# Altium schematic symbol library Diode.SchLib: 762 symbols (part 3 of 6)
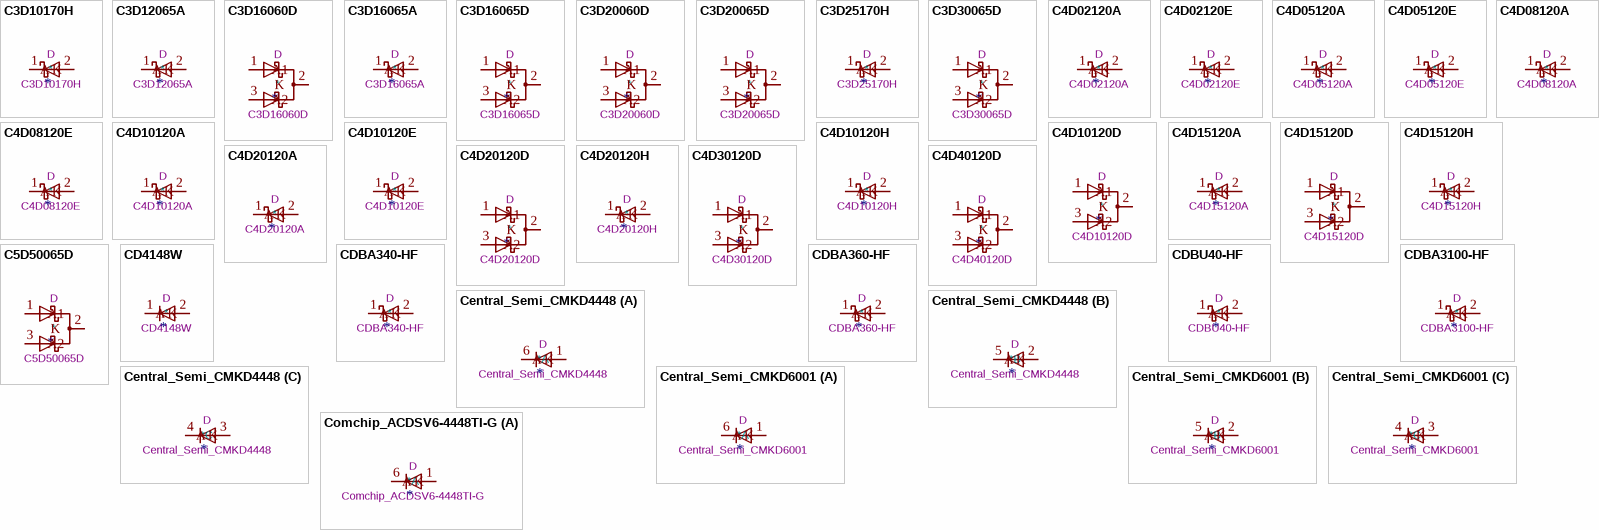
[diagram p22: symbols C3D10170H to Comchip_ACDSV6-4448TI-G]

## C4D40120D
designator *  value C4D40120D  Reference: D
1200V, 40A, SiC Schottky Diode, TO-247-3; ki_keywords: sic diode; ki_fp_filters: TO?247*; Footprint: Package_TO_SOT_THT:TO-247-3_Vertical; Datasheet: https://www.wolfspeed.com/media/downloads/109/C4D40120D.pdf; Description_: 1200V, 40A, SiC Schottky Diode, TO-247-3
pins: 1 A1, 2 K, 3 A2

## C5D50065D
designator *  value C5D50065D  Reference: D
650V, 50A, SiC Schottky Diode, TO-247-3; ki_keywords: sic diode; ki_fp_filters: TO?247*; Footprint: Package_TO_SOT_THT:TO-247-3_Vertical; Datasheet: https://www.wolfspeed.com/media/downloads/111/C5D50065D.pdf; Description_: 650V, 50A, SiC Schottky Diode, TO-247-3
pins: 1 A1, 2 K, 3 A2

## CD4148W
designator *  value CD4148W  Reference: D
75V 0.15A Switching Diode, 0805; Sim.Pins: 1=K 2=A; ki_fp_filters: D*0805*; Footprint: Diode_SMD:D_0805_2012Metric; Datasheet: https://www.dccomponents.com/upload/product/original/623524775088.pdf; Description_: 75V 0.15A Switching Diode, 0805; Sim.Device: D; ki_keywords: diode
pins: 1 K, 2 A

## CDBA340-HF
designator *  value CDBA340-HF  Reference: D
40V 3A Schottky Barrier Rectifier Diode, SMA(DO-214AC); ki_keywords: diode Schottky; ki_fp_filters: D*SMA*; Footprint: Diode_SMD:D_SMA; Datasheet: https://www.comchiptech.com/admin/files/product/CDBA340-HF%20Thru193640.%20CDBA3100-HF%20RevB.pdf; Description_: 40V 3A Schottky Barrier Rectifier Diode, SMA(DO-214AC)
pins: 1 K, 2 A

## CDBA360-HF
designator *  value CDBA360-HF  Reference: D
60V 3A Schottky Barrier Rectifier Diode, SMA(DO-214AC); ki_keywords: diode Schottky; ki_fp_filters: D*SMA*; Footprint: Diode_SMD:D_SMA; Datasheet: https://www.comchiptech.com/admin/files/product/CDBA340-HF%20Thru193640.%20CDBA3100-HF%20RevB.pdf; Description_: 60V 3A Schottky Barrier Rectifier Diode, SMA(DO-214AC)
pins: 1 K, 2 A

## CDBA3100-HF
designator *  value CDBA3100-HF  Reference: D
100V 3A Schottky Barrier Rectifier Diode, SMA(DO-214AC); ki_keywords: diode Schottky; ki_fp_filters: D*SMA*; Footprint: Diode_SMD:D_SMA; Datasheet: https://www.comchiptech.com/admin/files/product/CDBA340-HF%20Thru193640.%20CDBA3100-HF%20RevB.pdf; Description_: 100V 3A Schottky Barrier Rectifier Diode, SMA(DO-214AC)
pins: 1 K, 2 A

## CDBU40-HF
designator *  value CDBU40-HF  Reference: D
40V 200mA Schottky Barrier Rectifier Diode, 0603; ki_keywords: diode Schottky; ki_fp_filters: D*0603*; Footprint: Diode_SMD:D_0603_1608Metric; Datasheet: https://www.comchiptech.com/admin/files/product/QW-G1012-CDBU40-HF-RevA321692.pdf; Description_: 40V 200mA Schottky Barrier Rectifier Diode, 0603
pins: 1 K, 2 A

## Central_Semi_CMKD4448
designator *  value Central_Semi_CMKD4448  Reference: D
High speed switching diode array 3 independent; ki_fp_filters: *SOT?363*; Footprint: Package_TO_SOT_SMD:SOT-363_SC-70-6; Datasheet: http://www.centralsemi.com/PDFs/products/CMKD4448.PDF; Description_: High speed switching diode array 3 independent; ki_keywords: diode
part A pins: 1 A, 6 K
part B pins: 2 A, 5 K
part C pins: 3 A, 4 K

## Central_Semi_CMKD6001
designator *  value Central_Semi_CMKD6001  Reference: D
Ultra low leakage switching diode array 3 independent; ki_fp_filters: *SOT?363*; Footprint: Package_TO_SOT_SMD:SOT-363_SC-70-6; Datasheet: http://www.centralsemi.com/PDFs/products/CMKD6001.PDF; Description_: Ultra low leakage switching diode array 3 independent; ki_keywords: diode
part A pins: 1 A, 6 K
part B pins: 2 A, 5 K
part C pins: 3 A, 4 K

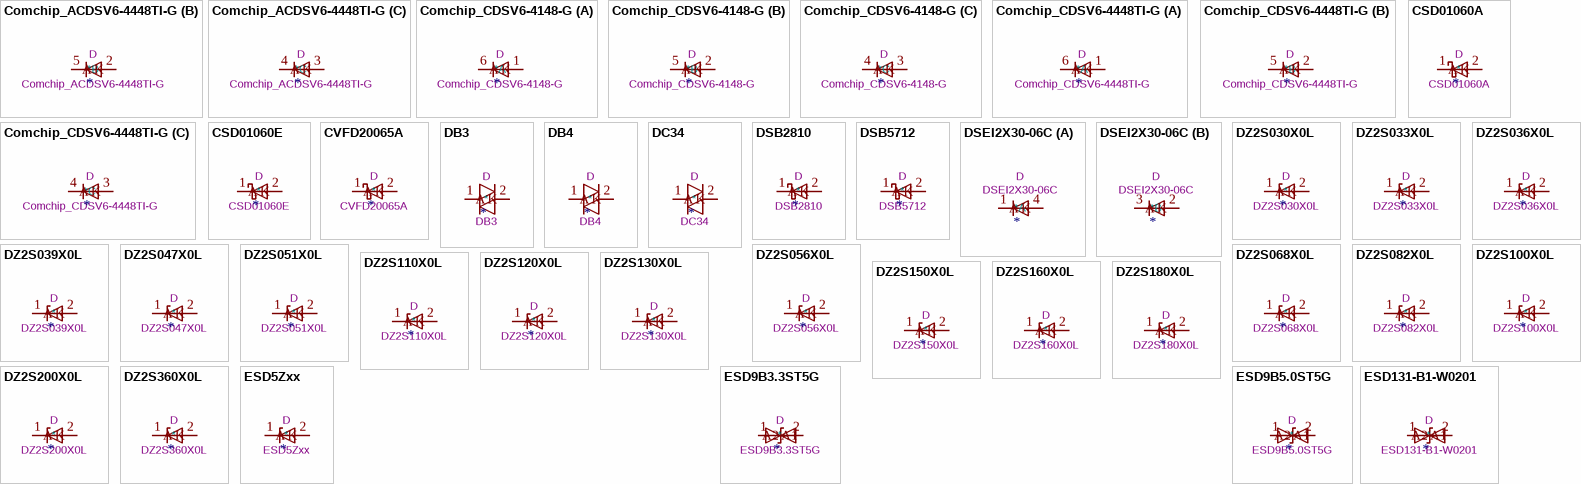
[diagram p8: symbols Comchip_ACDSV6-4448TI-G to ESD131-B1-W0201]

## Comchip_ACDSV6-4448TI-G
designator *  value Comchip_ACDSV6-4448TI-G  Reference: D
Small signal switching diode array 3 independent; ki_fp_filters: *SOT?363*; Footprint: Package_TO_SOT_SMD:SOT-363_SC-70-6; Datasheet: http://www.comchiptech.com/cms/UserFiles/ACDSV6-4448TI-G%20RevA285610.pdf; Description_: Small signal switching diode array 3 independent; ki_keywords: diode
part A pins: 1 A, 6 K
part B pins: 2 A, 5 K
part C pins: 3 A, 4 K

## Comchip_CDSV6-4148-G
designator *  value Comchip_CDSV6-4148-G  Reference: D
Fast switching diode array 3 independent; ki_fp_filters: *SOT?363*; Footprint: Package_TO_SOT_SMD:SOT-363_SC-70-6; Datasheet: http://www.comchiptech.com/cms/UserFiles/CDSV6-16-G,4148-G%20RevA272279.pdf; Description_: Fast switching diode array 3 independent; ki_keywords: diode
part A pins: 1 A, 6 K
part B pins: 2 A, 5 K
part C pins: 3 A, 4 K

## Comchip_CDSV6-4448TI-G
designator *  value Comchip_CDSV6-4448TI-G  Reference: D
High speed switching diode array 3 independent; ki_fp_filters: *SOT?363*; Footprint: Package_TO_SOT_SMD:SOT-363_SC-70-6; Datasheet: http://www.comchiptech.com/cms/UserFiles/CDSV6-4448XX-G%20RevC285574.pdf; Description_: High speed switching diode array 3 independent; ki_keywords: diode
part A pins: 1 A, 6 K
part B pins: 2 A, 5 K
part C pins: 3 A, 4 K

## CSD01060A
designator *  value CSD01060A  Reference: D
600V, 1A, SiC Schottky Diode, TO-220; ki_keywords: sic diode; ki_fp_filters: TO?220*; Footprint: Package_TO_SOT_THT:TO-220-2_Vertical; Datasheet: https://www.wolfspeed.com/media/downloads/87/CSD01060.pdf; Description_: 600V, 1A, SiC Schottky Diode, TO-220
pins: 1 K, 2 A

## CSD01060E
designator *  value CSD01060E  Reference: D
600V, 1A, SiC Schottky Diode, TO-252; ki_keywords: sic diode; ki_fp_filters: TO?252*TabPin1*; Footprint: Package_TO_SOT_SMD:TO-252-2_TabPin1; Datasheet: https://www.wolfspeed.com/media/downloads/87/CSD01060.pdf; Description_: 600V, 1A, SiC Schottky Diode, TO-252
pins: 1 K, 2 A

## CVFD20065A
designator *  value CVFD20065A  Reference: D
650V, 20A, SiC Schottky Diode, TO-220; ki_keywords: sic diode; ki_fp_filters: TO?220*; Footprint: Package_TO_SOT_THT:TO-220-2_Vertical; Datasheet: https://www.wolfspeed.com/media/downloads/89/CVFD20065A.pdf; Description_: 650V, 20A, SiC Schottky Diode, TO-220
pins: 1 K, 2 A

## DB3
designator *  value DB3  Reference: D
32V 2A Bidirectional trigger diode, DO-35; ki_keywords: AC diode DIAC; ki_fp_filters: D*DO?35*; Footprint: Diode_THT:D_DO-35_SOD27_P7.62mm_Horizontal; Datasheet: http://cdn-reichelt.de/documents/datenblatt/A100/DB%203%23st.pdf; Description_: 32V 2A Bidirectional trigger diode, DO-35
pins: 1 K, 2 A

## DB4
designator *  value DB4  Reference: D
34V 2A Bidirectional trigger diode, DO-35; ki_keywords: AC diode DIAC; ki_fp_filters: D*DO?35*; Footprint: Diode_THT:D_DO-35_SOD27_P7.62mm_Horizontal; Datasheet: http://cdn-reichelt.de/documents/datenblatt/A100/DB%203%23st.pdf; Description_: 34V 2A Bidirectional trigger diode, DO-35
pins: 1 K, 2 A

## DC34
designator *  value DC34  Reference: D
40V 2A Bidirectional trigger diode, DO-35; ki_keywords: AC diode DIAC; ki_fp_filters: D*DO?35*; Footprint: Diode_THT:D_DO-35_SOD27_P7.62mm_Horizontal; Datasheet: http://cdn-reichelt.de/documents/datenblatt/A100/DB%203%23st.pdf; Description_: 40V 2A Bidirectional trigger diode, DO-35
pins: 1 K, 2 A

## DSB2810
designator *  value DSB2810  Reference: D
20V 75mA Schottky diode, DO-35; ki_keywords: diode Schottky; ki_fp_filters: D*DO?35*; Footprint: Diode_THT:D_DO-35_SOD27_P7.62mm_Horizontal; Datasheet: https://www.microsemi.com/document-portal/doc_download/8865-lds-0040-datasheet; Description_: 20V 75mA Schottky diode, DO-35
pins: 1 K, 2 A

## DSB5712
designator *  value DSB5712  Reference: D
20V 75mA Schottky diode, DO-35; ki_keywords: diode Schottky; ki_fp_filters: D*DO?35*; Footprint: Diode_THT:D_DO-35_SOD27_P7.62mm_Horizontal; Datasheet: https://www.microsemi.com/document-portal/doc_download/8865-lds-0040-datasheet; Description_: 20V 75mA Schottky diode, DO-35
pins: 1 K, 2 A

## DSEI2X30-06C
designator *  value DSEI2X30-06C  Reference: D
600V, 2x 30A, Dual Fast Recovery Epitaxial Diode, trr = 80ns, Ptot = 105W, SOT-227B (minibloc, ISOTOP); ki_keywords: IXYS FRED low-loss power-diode; ki_fp_filters: *SOT*227*; Footprint: Package_TO_SOT_THT:SOT-227; Datasheet: https://www.littelfuse.com/assetdocs/littelfuse-power-semiconductors-dsei2x30-06c-datasheet?assetguid=6b3b6596-6f30-4608-9e1c-7810fd6f261d; Description_: 600V, 2x 30A, Dual Fast Recovery Epitaxial Diode, trr = 80ns, Ptot = 105W, SOT-227B (minibloc, ISOTOP)
part A pins: 1 K, 4 A
part B pins: 2 A, 3 K

## DZ2S030X0L
designator *  value DZ2S030X0L  Reference: D
150mW Silicon Planar Zener Diode, 3.0V, SOD-523; ki_fp_filters: D?SOD?523*; Footprint: Diode_SMD:D_SOD-523; Datasheet: https://industrial.panasonic.com/content/data/SC/ds/ds4/DZ2S03000L_E.pdf; Description_: 150mW Silicon Planar Zener Diode, 3.0V, SOD-523; ki_keywords: zener diode
pins: 1 K, 2 A

## DZ2S033X0L
designator *  value DZ2S033X0L  Reference: D
150mW Silicon Planar Zener Diode, 3.3V, SOD-523; ki_fp_filters: D?SOD?523*; Footprint: Diode_SMD:D_SOD-523; Datasheet: https://industrial.panasonic.com/content/data/SC/ds/ds4/DZ2S03300L_E.pdf; Description_: 150mW Silicon Planar Zener Diode, 3.3V, SOD-523; ki_keywords: zener diode
pins: 1 K, 2 A

## DZ2S036X0L
designator *  value DZ2S036X0L  Reference: D
150mW Silicon Planar Zener Diode, 3.6V, SOD-523; ki_fp_filters: D?SOD?523*; Footprint: Diode_SMD:D_SOD-523; Datasheet: https://industrial.panasonic.com/content/data/SC/ds/ds4/DZ2S03600L_E.pdf; Description_: 150mW Silicon Planar Zener Diode, 3.6V, SOD-523; ki_keywords: zener diode
pins: 1 K, 2 A

## DZ2S039X0L
designator *  value DZ2S039X0L  Reference: D
150mW Silicon Planar Zener Diode, 3.9V, SOD-523; ki_fp_filters: D?SOD?523*; Footprint: Diode_SMD:D_SOD-523; Datasheet: https://industrial.panasonic.com/content/data/SC/ds/ds4/DZ2S03900L_E.pdf; Description_: 150mW Silicon Planar Zener Diode, 3.9V, SOD-523; ki_keywords: zener diode
pins: 1 K, 2 A

## DZ2S047X0L
designator *  value DZ2S047X0L  Reference: D
150mW Silicon Planar Zener Diode, 4.7V, SOD-523; ki_fp_filters: D?SOD?523*; Footprint: Diode_SMD:D_SOD-523; Datasheet: https://industrial.panasonic.com/content/data/SC/ds/ds4/DZ2S04700L_E.pdf; Description_: 150mW Silicon Planar Zener Diode, 4.7V, SOD-523; ki_keywords: zener diode
pins: 1 K, 2 A

## DZ2S051X0L
designator *  value DZ2S051X0L  Reference: D
150mW Silicon Planar Zener Diode, 5.1V, SOD-523; ki_fp_filters: D?SOD?523*; Footprint: Diode_SMD:D_SOD-523; Datasheet: https://industrial.panasonic.com/content/data/SC/ds/ds4/DZ2S05100L_E.pdf; Description_: 150mW Silicon Planar Zener Diode, 5.1V, SOD-523; ki_keywords: zener diode
pins: 1 K, 2 A

## DZ2S056X0L
designator *  value DZ2S056X0L  Reference: D
150mW Silicon Planar Zener Diode, 5.6V, SOD-523; ki_fp_filters: D?SOD?523*; Footprint: Diode_SMD:D_SOD-523; Datasheet: https://industrial.panasonic.com/content/data/SC/ds/ds4/DZ2S05600L_E.pdf; Description_: 150mW Silicon Planar Zener Diode, 5.6V, SOD-523; ki_keywords: zener diode
pins: 1 K, 2 A

## DZ2S068X0L
designator *  value DZ2S068X0L  Reference: D
150mW Silicon Planar Zener Diode, 6.8V, SOD-523; ki_fp_filters: D?SOD?523*; Footprint: Diode_SMD:D_SOD-523; Datasheet: https://industrial.panasonic.com/content/data/SC/ds/ds4/DZ2S06800L_E.pdf; Description_: 150mW Silicon Planar Zener Diode, 6.8V, SOD-523; ki_keywords: zener diode
pins: 1 K, 2 A

## DZ2S082X0L
designator *  value DZ2S082X0L  Reference: D
150mW Silicon Planar Zener Diode, 8.2V, SOD-523; ki_fp_filters: D?SOD?523*; Footprint: Diode_SMD:D_SOD-523; Datasheet: https://industrial.panasonic.com/content/data/SC/ds/ds4/DZ2S08200L_E.pdf; Description_: 150mW Silicon Planar Zener Diode, 8.2V, SOD-523; ki_keywords: zener diode
pins: 1 K, 2 A

## DZ2S100X0L
designator *  value DZ2S100X0L  Reference: D
150mW Silicon Planar Zener Diode, 10V, SOD-523; ki_fp_filters: D?SOD?523*; Footprint: Diode_SMD:D_SOD-523; Datasheet: https://industrial.panasonic.com/content/data/SC/ds/ds4/DZ2S10000L_E.pdf; Description_: 150mW Silicon Planar Zener Diode, 10V, SOD-523; ki_keywords: zener diode
pins: 1 K, 2 A

## DZ2S110X0L
designator *  value DZ2S110X0L  Reference: D
150mW Silicon Planar Zener Diode, 11V, SOD-523; ki_fp_filters: D?SOD?523*; Footprint: Diode_SMD:D_SOD-523; Datasheet: https://industrial.panasonic.com/content/data/SC/ds/ds4/DZ2S11000L_E.pdf; Description_: 150mW Silicon Planar Zener Diode, 11V, SOD-523; ki_keywords: zener diode
pins: 1 K, 2 A

## DZ2S120X0L
designator *  value DZ2S120X0L  Reference: D
150mW Silicon Planar Zener Diode, 12V, SOD-523; ki_fp_filters: D?SOD?523*; Footprint: Diode_SMD:D_SOD-523; Datasheet: https://industrial.panasonic.com/content/data/SC/ds/ds4/DZ2S12000L_E.pdf; Description_: 150mW Silicon Planar Zener Diode, 12V, SOD-523; ki_keywords: zener diode
pins: 1 K, 2 A

## DZ2S130X0L
designator *  value DZ2S130X0L  Reference: D
150mW Silicon Planar Zener Diode, 13V, SOD-523; ki_fp_filters: D?SOD?523*; Footprint: Diode_SMD:D_SOD-523; Datasheet: https://industrial.panasonic.com/content/data/SC/ds/ds4/DZ2S13000L_E.pdf; Description_: 150mW Silicon Planar Zener Diode, 13V, SOD-523; ki_keywords: zener diode
pins: 1 K, 2 A

## DZ2S150X0L
designator *  value DZ2S150X0L  Reference: D
150mW Silicon Planar Zener Diode, 15V, SOD-523; ki_fp_filters: D?SOD?523*; Footprint: Diode_SMD:D_SOD-523; Datasheet: https://industrial.panasonic.com/content/data/SC/ds/ds4/DZ2S15000L_E.pdf; Description_: 150mW Silicon Planar Zener Diode, 15V, SOD-523; ki_keywords: zener diode
pins: 1 K, 2 A

## DZ2S160X0L
designator *  value DZ2S160X0L  Reference: D
150mW Silicon Planar Zener Diode, 16V, SOD-523; ki_fp_filters: D?SOD?523*; Footprint: Diode_SMD:D_SOD-523; Datasheet: https://industrial.panasonic.com/content/data/SC/ds/ds4/DZ2S16000L_E.pdf; Description_: 150mW Silicon Planar Zener Diode, 16V, SOD-523; ki_keywords: zener diode
pins: 1 K, 2 A

## DZ2S180X0L
designator *  value DZ2S180X0L  Reference: D
150mW Silicon Planar Zener Diode, 18V, SOD-523; ki_fp_filters: D?SOD?523*; Footprint: Diode_SMD:D_SOD-523; Datasheet: https://industrial.panasonic.com/content/data/SC/ds/ds4/DZ2S18000L_E.pdf; Description_: 150mW Silicon Planar Zener Diode, 18V, SOD-523; ki_keywords: zener diode
pins: 1 K, 2 A

## DZ2S200X0L
designator *  value DZ2S200X0L  Reference: D
150mW Silicon Planar Zener Diode, 20V, SOD-523; ki_fp_filters: D?SOD?523*; Footprint: Diode_SMD:D_SOD-523; Datasheet: https://industrial.panasonic.com/content/data/SC/ds/ds4/DZ2S20000L_E.pdf; Description_: 150mW Silicon Planar Zener Diode, 20V, SOD-523; ki_keywords: zener diode
pins: 1 K, 2 A

## DZ2S360X0L
designator *  value DZ2S360X0L  Reference: D
150mW Silicon Planar Zener Diode, 36V, SOD-523; ki_fp_filters: D?SOD?523*; Footprint: Diode_SMD:D_SOD-523; Datasheet: https://industrial.panasonic.com/content/data/SC/ds/ds4/DZ2S36000L_E.pdf; Description_: 150mW Silicon Planar Zener Diode, 36V, SOD-523; ki_keywords: zener diode
pins: 1 K, 2 A

## ESD5Zxx
designator *  value ESD5Zxx  Reference: D
ESD Protection Diode, SOD-523; ki_keywords: esd tvs unidirectional diode; ki_fp_filters: D?SOD?523*; Footprint: Diode_SMD:D_SOD-523; Datasheet: https://www.onsemi.com/pdf/datasheet/esd5z2.5t1-d.pdf; Description_: ESD Protection Diode, SOD-523
pins: 1 K, 2 A

## ESD9B3.3ST5G
designator *  value ESD9B3.3ST5G  Reference: D
ESD protection diode, 3.3Vrwm, SOD-923; ki_keywords: diode TVS ESD; ki_fp_filters: D*SOD?923*; Footprint: Diode_SMD:D_SOD-923; Datasheet: https://www.onsemi.com/pub/Collateral/ESD9B-D.PDF; Description_: ESD protection diode, 3.3Vrwm, SOD-923
pins: 1 A1, 2 A2

## ESD9B5.0ST5G
designator *  value ESD9B5.0ST5G  Reference: D
ESD protection diode, 5.0Vrwm, SOD-923; ki_keywords: diode TVS ESD; ki_fp_filters: D*SOD?923*; Footprint: Diode_SMD:D_SOD-923; Datasheet: https://www.onsemi.com/pub/Collateral/ESD9B-D.PDF; Description_: ESD protection diode, 5.0Vrwm, SOD-923
pins: 1 A1, 2 A2

## ESD131-B1-W0201
designator *  value ESD131-B1-W0201  Reference: D
Bidirectional ESD protection diode, ±5.5Vrwm, 0.23pF, SG-WLL-2-3; ki_keywords: diode TVS ESD; ki_fp_filters: *SG?WLL?2?3*; Footprint: Diode_SMD:Infineon_SG-WLL-2-3_0.58x0.28_P0.36mm; Datasheet: https://www.infineon.com/dgdl/Infineon-ESD131-B1-W0201-DataSheet-v02_00-EN.pdf?fileId=5546d4625cc9456a015ce94850964889; Description_: Bidirectional ESD protection diode, ±5.5Vrwm, 0.23pF, SG-WLL-2-3
pins: 1 A1, 2 A2

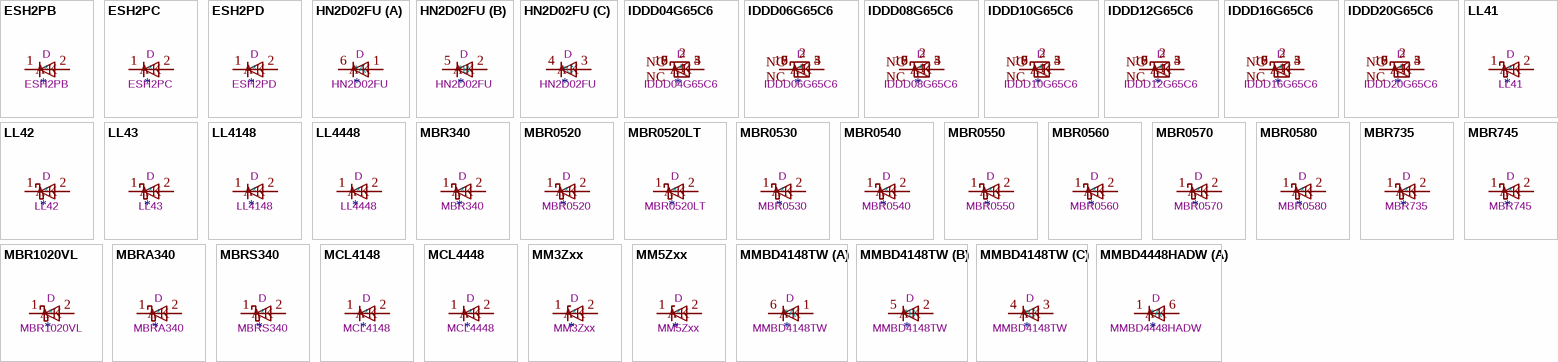
[diagram p9: symbols ESH2PB to MMBD4448HADW]

## ESH2PB
designator *  value ESH2PB  Reference: D
100V 2A High Voltage Ultrafast Diode, 25ns reverse recovery time, SMP; Sim.Pins: 1=K 2=A; ki_fp_filters: *D?SMP*; Footprint: Diode_SMD:D_SMP_DO-220AA; Datasheet: https://www.vishay.com/docs/89016/esh2pb.pdf; Description_: 100V 2A High Voltage Ultrafast Diode, 25ns reverse recovery time, SMP; Sim.Device: D; ki_keywords: diode
pins: 1 K, 2 A

## ESH2PC
designator *  value ESH2PC  Reference: D
150V 2A High Voltage Ultrafast Diode, 25ns reverse recovery time, SMP; Sim.Pins: 1=K 2=A; ki_fp_filters: *D?SMP*; Footprint: Diode_SMD:D_SMP_DO-220AA; Datasheet: https://www.vishay.com/docs/89016/esh2pb.pdf; Description_: 150V 2A High Voltage Ultrafast Diode, 25ns reverse recovery time, SMP; Sim.Device: D; ki_keywords: diode
pins: 1 K, 2 A

## ESH2PD
designator *  value ESH2PD  Reference: D
200V 2A High Voltage Ultrafast Diode, 25ns reverse recovery time, SMP; Sim.Pins: 1=K 2=A; ki_fp_filters: *D?SMP*; Footprint: Diode_SMD:D_SMP_DO-220AA; Datasheet: https://www.vishay.com/docs/89016/esh2pb.pdf; Description_: 200V 2A High Voltage Ultrafast Diode, 25ns reverse recovery time, SMP; Sim.Device: D; ki_keywords: diode
pins: 1 K, 2 A

## HN2D02FU
designator *  value HN2D02FU  Reference: D
Ultra high speed switching diode array 3 independent; ki_fp_filters: *SOT?363*; Footprint: Package_TO_SOT_SMD:SOT-363_SC-70-6; Datasheet: http://www.onsemi.com/pub_link/Collateral/HN2D02FUTW1T1-D.PDF; Description_: Ultra high speed switching diode array 3 independent; ki_keywords: diode
part A pins: 1 A, 6 K
part B pins: 2 A, 5 K
part C pins: 3 A, 4 K

## IDDD04G65C6
designator *  value IDDD04G65C6  Reference: D
650V, 4A, SiC Schottky Diode, CoolSiC, PG-HDSOP-10-1 (DDPAK); ki_keywords: sic diode; ki_fp_filters: Infineon*PG*HDSOP*; Footprint: Package_TO_SOT_SMD:Infineon_PG-HDSOP-10-1; Datasheet: https://www.infineon.com/dgdl/Infineon-IDDD04G65C6-DS-v02_00-EN.pdf?fileId=5546d462625a528f01628f749daa0e03; Description_: 650V, 4A, SiC Schottky Diode, CoolSiC, PG-HDSOP-10-1 (DDPAK)
pins: 1 NC, 2 NC, 3 A, 4 A, 5 A, 6 K, 7 K, 8 K, 9 K, 10 K

## IDDD06G65C6
designator *  value IDDD06G65C6  Reference: D
650V, 6A, SiC Schottky Diode, CoolSiC, PG-HDSOP-10-1 (DDPAK); ki_keywords: sic diode; ki_fp_filters: Infineon*PG*HDSOP*; Footprint: Package_TO_SOT_SMD:Infineon_PG-HDSOP-10-1; Datasheet: https://www.infineon.com/dgdl/Infineon-IDDD06G65C6-DS-v02_00-EN.pdf?fileId=5546d462625a528f01628f86ff8c0e09; Description_: 650V, 6A, SiC Schottky Diode, CoolSiC, PG-HDSOP-10-1 (DDPAK)
pins: 1 NC, 2 NC, 3 A, 4 A, 5 A, 6 K, 7 K, 8 K, 9 K, 10 K

## IDDD08G65C6
designator *  value IDDD08G65C6  Reference: D
650V, 8A, SiC Schottky Diode, CoolSiC, PG-HDSOP-10-1 (DDPAK); ki_keywords: sic diode; ki_fp_filters: Infineon*PG*HDSOP*; Footprint: Package_TO_SOT_SMD:Infineon_PG-HDSOP-10-1; Datasheet: https://www.infineon.com/dgdl/Infineon-IDDD08G65C6-DS-v02_00-EN.pdf?fileId=5546d462625a528f01628ff7d31a104b; Description_: 650V, 8A, SiC Schottky Diode, CoolSiC, PG-HDSOP-10-1 (DDPAK)
pins: 1 NC, 2 NC, 3 A, 4 A, 5 A, 6 K, 7 K, 8 K, 9 K, 10 K

## IDDD10G65C6
designator *  value IDDD10G65C6  Reference: D
650V, 10A, SiC Schottky Diode, CoolSiC, PG-HDSOP-10-1 (DDPAK); ki_keywords: sic diode; ki_fp_filters: Infineon*PG*HDSOP*; Footprint: Package_TO_SOT_SMD:Infineon_PG-HDSOP-10-1; Datasheet: https://www.infineon.com/dgdl/Infineon-IDDD10G65C6-DS-v02_00-EN.pdf?fileId=5546d462625a528f01628ff848ec1051; Description_: 650V, 10A, SiC Schottky Diode, CoolSiC, PG-HDSOP-10-1 (DDPAK)
pins: 1 NC, 2 NC, 3 A, 4 A, 5 A, 6 K, 7 K, 8 K, 9 K, 10 K

## IDDD12G65C6
designator *  value IDDD12G65C6  Reference: D
650V, 12A, SiC Schottky Diode, CoolSiC, PG-HDSOP-10-1 (DDPAK); ki_keywords: sic diode; ki_fp_filters: Infineon*PG*HDSOP*; Footprint: Package_TO_SOT_SMD:Infineon_PG-HDSOP-10-1; Datasheet: https://www.infineon.com/dgdl/Infineon-IDDD12G65C6-DS-v02_00-EN.pdf?fileId=5546d462625a528f01628f86ec3e0e06; Description_: 650V, 12A, SiC Schottky Diode, CoolSiC, PG-HDSOP-10-1 (DDPAK)
pins: 1 NC, 2 NC, 3 A, 4 A, 5 A, 6 K, 7 K, 8 K, 9 K, 10 K

## IDDD16G65C6
designator *  value IDDD16G65C6  Reference: D
650V, 16A, SiC Schottky Diode, CoolSiC, PG-HDSOP-10-1 (DDPAK); ki_keywords: sic diode; ki_fp_filters: Infineon*PG*HDSOP*; Footprint: Package_TO_SOT_SMD:Infineon_PG-HDSOP-10-1; Datasheet: https://www.infineon.com/dgdl/Infineon-IDDD16G65C6-DS-v02_00-EN.pdf?fileId=5546d462625a528f01628f8711b50e0c; Description_: 650V, 16A, SiC Schottky Diode, CoolSiC, PG-HDSOP-10-1 (DDPAK)
pins: 1 NC, 2 NC, 3 A, 4 A, 5 A, 6 K, 7 K, 8 K, 9 K, 10 K

## IDDD20G65C6
designator *  value IDDD20G65C6  Reference: D
650V, 20A, SiC Schottky Diode, CoolSiC, PG-HDSOP-10-1 (DDPAK); ki_keywords: sic diode; ki_fp_filters: Infineon*PG*HDSOP*; Footprint: Package_TO_SOT_SMD:Infineon_PG-HDSOP-10-1; Datasheet: https://www.infineon.com/dgdl/Infineon-IDDD20G65C6-DS-v02_00-EN.pdf?fileId=5546d462625a528f01628ff837cf104e; Description_: 650V, 20A, SiC Schottky Diode, CoolSiC, PG-HDSOP-10-1 (DDPAK)
pins: 1 NC, 2 NC, 3 A, 4 A, 5 A, 6 K, 7 K, 8 K, 9 K, 10 K

## LL41
designator *  value LL41  Reference: D
100V 0.1A Small Signal Schottky diode, MiniMELF; ki_keywords: diode Schottky; ki_fp_filters: D*MiniMELF*; Footprint: Diode_SMD:D_MiniMELF; Datasheet: http://www.vishay.com/docs/85659/bat41.pdf; Description_: 100V 0.1A Small Signal Schottky diode, MiniMELF
pins: 1 K, 2 A

## LL42
designator *  value LL42  Reference: D
30V 0.2A Small Signal Schottky diode, MiniMELF; ki_keywords: diode Schottky; ki_fp_filters: D*MiniMELF*; Footprint: Diode_SMD:D_MiniMELF; Datasheet: http://www.vishay.com/docs/85672/ll42.pdf; Description_: 30V 0.2A Small Signal Schottky diode, MiniMELF
pins: 1 K, 2 A

## LL43
designator *  value LL43  Reference: D
30V 0.2A Small Signal Schottky diode, MiniMELF; ki_keywords: diode Schottky; ki_fp_filters: D*MiniMELF*; Footprint: Diode_SMD:D_MiniMELF; Datasheet: http://www.vishay.com/docs/85672/ll42.pdf; Description_: 30V 0.2A Small Signal Schottky diode, MiniMELF
pins: 1 K, 2 A

## LL4148
designator *  value LL4148  Reference: D
100V 0.15A standard switching diode, MiniMELF; Sim.Pins: 1=K 2=A; ki_fp_filters: D*MiniMELF*; Footprint: Diode_SMD:D_MiniMELF; Datasheet: http://www.vishay.com/docs/85557/ll4148.pdf; Description_: 100V 0.15A standard switching diode, MiniMELF; Sim.Device: D; ki_keywords: diode
pins: 1 K, 2 A

## LL4448
designator *  value LL4448  Reference: D
100V 0.15A standard switching diode, MiniMELF; Sim.Pins: 1=K 2=A; ki_fp_filters: D*MiniMELF*; Footprint: Diode_SMD:D_MiniMELF; Datasheet: http://www.vishay.com/docs/85557/ll4148.pdf; Description_: 100V 0.15A standard switching diode, MiniMELF; Sim.Device: D; ki_keywords: diode
pins: 1 K, 2 A

## MBR340
designator *  value MBR340  Reference: D
40V 3A Schottky Barrier Rectifier Diode, DO-201AD; ki_keywords: diode Schottky; ki_fp_filters: D*DO?201AD*; Footprint: Diode_THT:D_DO-201AD_P15.24mm_Horizontal; Datasheet: http://www.onsemi.com/pub_link/Collateral/MBR340-D.PDF; Description_: 40V 3A Schottky Barrier Rectifier Diode, DO-201AD
pins: 1 K, 2 A

## MBR0520
designator *  value MBR0520  Reference: D
20V 0.5A Schottky Power Rectifier Diode, SOD-123; ki_keywords: diode Schottky; ki_fp_filters: D*SOD?123*; Footprint: Diode_SMD:D_SOD-123; Datasheet: http://www.mccsemi.com/up_pdf/MBR0520~MBR0580(SOD123).pdf; Description_: 20V 0.5A Schottky Power Rectifier Diode, SOD-123
pins: 1 K, 2 A

## MBR0520LT
designator *  value MBR0520LT  Reference: D
20V 0.5A Schottky Power Rectifier Diode, SOD-123; ki_keywords: diode Schottky; ki_fp_filters: D*SOD?123*; Footprint: Diode_SMD:D_SOD-123; Datasheet: http://www.onsemi.com/pub_link/Collateral/MBR0520LT1-D.PDF; Description_: 20V 0.5A Schottky Power Rectifier Diode, SOD-123
pins: 1 K, 2 A

## MBR0530
designator *  value MBR0530  Reference: D
30V 0.5A Schottky Power Rectifier Diode, SOD-123; ki_keywords: diode Schottky; ki_fp_filters: D*SOD?123*; Footprint: Diode_SMD:D_SOD-123; Datasheet: http://www.mccsemi.com/up_pdf/MBR0520~MBR0580(SOD123).pdf; Description_: 30V 0.5A Schottky Power Rectifier Diode, SOD-123
pins: 1 K, 2 A

## MBR0540
designator *  value MBR0540  Reference: D
40V 0.5A Schottky Power Rectifier Diode, SOD-123; ki_keywords: diode Schottky; ki_fp_filters: D*SOD?123*; Footprint: Diode_SMD:D_SOD-123; Datasheet: http://www.mccsemi.com/up_pdf/MBR0520~MBR0580(SOD123).pdf; Description_: 40V 0.5A Schottky Power Rectifier Diode, SOD-123
pins: 1 K, 2 A

## MBR0550
designator *  value MBR0550  Reference: D
50V 0.5A Schottky Power Rectifier Diode, SOD-123; ki_keywords: diode Schottky; ki_fp_filters: D*SOD?123*; Footprint: Diode_SMD:D_SOD-123; Datasheet: http://www.mccsemi.com/up_pdf/MBR0520~MBR0580(SOD123).pdf; Description_: 50V 0.5A Schottky Power Rectifier Diode, SOD-123
pins: 1 K, 2 A

## MBR0560
designator *  value MBR0560  Reference: D
60V 0.5A Schottky Power Rectifier Diode, SOD-123; ki_keywords: diode Schottky; ki_fp_filters: D*SOD?123*; Footprint: Diode_SMD:D_SOD-123; Datasheet: http://www.mccsemi.com/up_pdf/MBR0520~MBR0580(SOD123).pdf; Description_: 60V 0.5A Schottky Power Rectifier Diode, SOD-123
pins: 1 K, 2 A

## MBR0570
designator *  value MBR0570  Reference: D
70V 0.5A Schottky Power Rectifier Diode, SOD-123; ki_keywords: diode Schottky; ki_fp_filters: D*SOD?123*; Footprint: Diode_SMD:D_SOD-123; Datasheet: http://www.mccsemi.com/up_pdf/MBR0520~MBR0580(SOD123).pdf; Description_: 70V 0.5A Schottky Power Rectifier Diode, SOD-123
pins: 1 K, 2 A

## MBR0580
designator *  value MBR0580  Reference: D
80V 0.5A Schottky Power Rectifier Diode, SOD-123; ki_keywords: diode Schottky; ki_fp_filters: D*SOD?123*; Footprint: Diode_SMD:D_SOD-123; Datasheet: http://www.mccsemi.com/up_pdf/MBR0520~MBR0580(SOD123).pdf; Description_: 80V 0.5A Schottky Power Rectifier Diode, SOD-123
pins: 1 K, 2 A

## MBR735
designator *  value MBR735  Reference: D
35V 7.5A Schottky Barrier Rectifier Diode, TO-220; ki_keywords: diode Schottky; ki_fp_filters: TO?220*; Footprint: Package_TO_SOT_THT:TO-220-2_Vertical; Datasheet: http://www.onsemi.com/pub_link/Collateral/MBR735-D.PDF; Description_: 35V 7.5A Schottky Barrier Rectifier Diode, TO-220
pins: 1 K, 2 A

## MBR745
designator *  value MBR745  Reference: D
45V 7.5A Schottky Barrier Rectifier Diode, TO-220; ki_keywords: diode Schottky; ki_fp_filters: TO?220*; Footprint: Package_TO_SOT_THT:TO-220-2_Vertical; Datasheet: http://www.onsemi.com/pub_link/Collateral/MBR735-D.PDF; Description_: 45V 7.5A Schottky Barrier Rectifier Diode, TO-220
pins: 1 K, 2 A

## MBR1020VL
designator *  value MBR1020VL  Reference: D
20V, 1A, 340 mV, Schottky Diode Rectifier, SOD-123F; ki_keywords: forward voltage diode; ki_fp_filters: D*SOD?123F*; Footprint: Diode_SMD:D_SOD-123F; Datasheet: https://www.onsemi.com/pub/Collateral/MBR1020VL-D.PDF; Description_: 20V, 1A, 340 mV, Schottky Diode Rectifier, SOD-123F
pins: 1 K, 2 A

## MBRA340
designator *  value MBRA340  Reference: D
40V 3A Schottky Barrier Rectifier Diode, SMA(DO-214AC); ki_keywords: diode Schottky; ki_fp_filters: D*SMA*; Footprint: Diode_SMD:D_SMA; Datasheet: https://www.onsemi.com/pub/Collateral/MBRA340T3-D.PDF; Description_: 40V 3A Schottky Barrier Rectifier Diode, SMA(DO-214AC)
pins: 1 K, 2 A

## MBRS340
designator *  value MBRS340  Reference: D
40V 3A Schottky Barrier Rectifier Diode, SMC (DO-214AB); ki_keywords: diode Schottky; ki_fp_filters: *D*SMC*; Footprint: Diode_SMD:D_SMC; Datasheet: https://www.onsemi.com/download/data-sheet/pdf/mbrs340t3-d.pdf; Description_: 40V 3A Schottky Barrier Rectifier Diode, SMC (DO-214AB)
pins: 1 K, 2 A

## MCL4148
designator *  value MCL4148  Reference: D
75V 0.2A Switching Diode, MicroMELF; Sim.Pins: 1=K 2=A; ki_fp_filters: D*MicroMELF*; Footprint: Diode_SMD:D_MicroMELF; Datasheet: http://www.vishay.com/docs/85566/mlc4148.pdf; Description_: 75V 0.2A Switching Diode, MicroMELF; Sim.Device: D; ki_keywords: diode
pins: 1 K, 2 A

## MCL4448
designator *  value MCL4448  Reference: D
75V 0.2A Switching Diode, MicroMELF; Sim.Pins: 1=K 2=A; ki_fp_filters: D*MicroMELF*; Footprint: Diode_SMD:D_MicroMELF; Datasheet: http://www.vishay.com/docs/85566/mlc4148.pdf; Description_: 75V 0.2A Switching Diode, MicroMELF; Sim.Device: D; ki_keywords: diode
pins: 1 K, 2 A

## MM3Zxx
designator *  value MM3Zxx  Reference: D
300mW Zener Diode, SOD-323F; ki_fp_filters: D?SOD?323F*; Footprint: Diode_SMD:D_SOD-323F; Datasheet: https://diotec.com/tl_files/diotec/files/pdf/datasheets/mm3z2v4.pdf; Description_: 300mW Zener Diode, SOD-323F; ki_keywords: zener diode
pins: 1 K, 2 A

## MM5Zxx
designator *  value MM5Zxx  Reference: D
300mW Zener Diode, SOD-523; ki_fp_filters: D?SOD?523*; Footprint: Diode_SMD:D_SOD-523; Datasheet: https://diotec.com/tl_files/diotec/files/pdf/datasheets/mm5z2v4.pdf; Description_: 300mW Zener Diode, SOD-523; ki_keywords: zener diode
pins: 1 K, 2 A

## MMBD4148TW
designator *  value MMBD4148TW  Reference: D
Fast switching diode array 3 independent; ki_fp_filters: *SOT?363*; Footprint: Package_TO_SOT_SMD:SOT-363_SC-70-6; Datasheet: http://www.diodes.com/datasheets/ds30154.pdf; Description_: Fast switching diode array 3 independent; ki_keywords: diode
part A pins: 1 A, 6 K
part B pins: 2 A, 5 K
part C pins: 3 A, 4 K

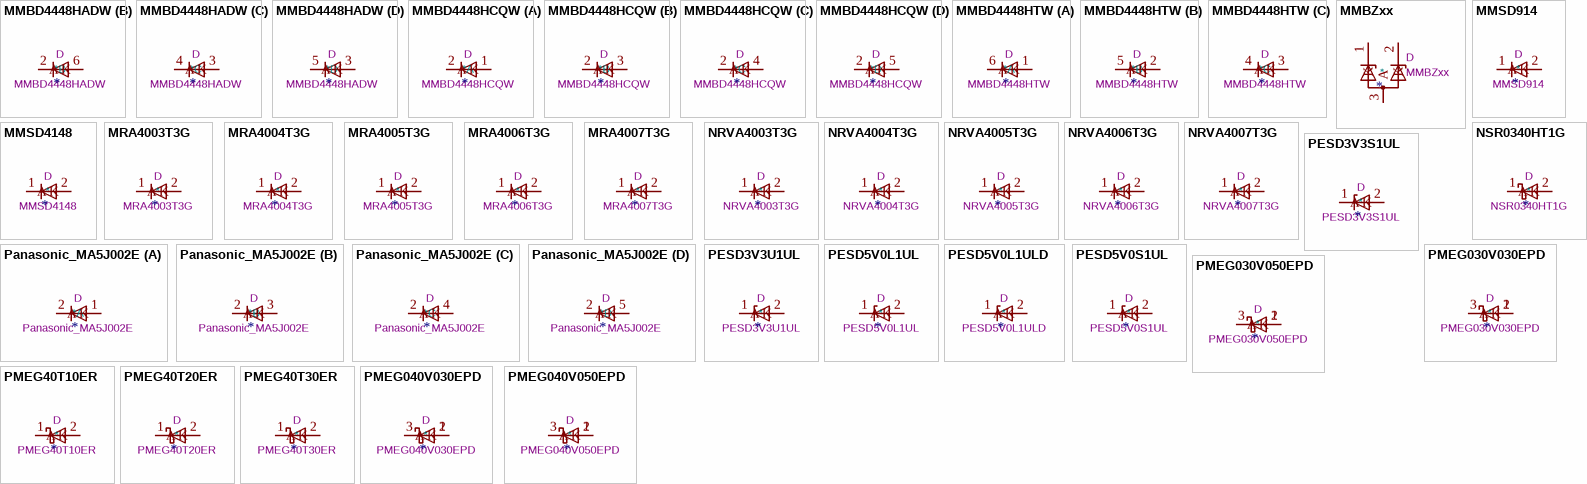
[diagram p10: symbols MMBD4448HADW to PMEG040V050EPD]

## MMBD4448HADW
designator *  value MMBD4448HADW  Reference: D
Fast Switching Diode Array 2 pair Com A; ki_fp_filters: SOT?363*; Footprint: Package_TO_SOT_SMD:SOT-363_SC-70-6; Datasheet: http://www.diodes.com/datasheets/ds30153.pdf; Description_: Fast Switching Diode Array 2 pair Com A; ki_keywords: diode
part A pins: 1 K, 6 A
part B pins: 2 K, 6 A
part C pins: 3 A, 4 K
part D pins: 3 A, 5 K

## MMBD4448HCQW
designator *  value MMBD4448HCQW  Reference: D
Quad Switching Diode Array Common Cathode; ki_fp_filters: SOT?353*; Footprint: Package_TO_SOT_SMD:SOT-353_SC-70-5; Datasheet: http://www.diodes.com/datasheets/ds30153.pdf; Description_: Quad Switching Diode Array Common Cathode; ki_keywords: diode
part A pins: 1 A, 2 K
part B pins: 2 K, 3 A
part C pins: 2 K, 4 A
part D pins: 2 K, 5 A

## MMBD4448HTW
designator *  value MMBD4448HTW  Reference: D
Fast switching diode array 3 independent; ki_fp_filters: *SOT?363*; Footprint: Package_TO_SOT_SMD:SOT-363_SC-70-6; Datasheet: http://www.diodes.com/datasheets/ds30153.pdf; Description_: Fast switching diode array 3 independent; ki_keywords: diode
part A pins: 1 A, 6 K
part B pins: 2 A, 5 K
part C pins: 3 A, 4 K

## MMBZxx
designator *  value MMBZxx  Reference: D
Double Zener Diode, Common Anode, 225mW, SOT-23; ki_keywords: dual zener diode; ki_fp_filters: SOT?23*; Footprint: Package_TO_SOT_SMD:SOT-23; Datasheet: http://www.onsemi.com/pub/Collateral/MMBZ5V6ALT1-D.PDF; Description_: Double Zener Diode, Common Anode, 225mW, SOT-23
pins: 1 K, 2 K, 3 A

## MMSD914
designator *  value MMSD914  Reference: D
100V 0.2A Switching Diode, SOD-123; Sim.Pins: 1=K 2=A; ki_fp_filters: D*SOD?123*; Footprint: Diode_SMD:D_SOD-123; Datasheet: https://www.onsemi.com/pub/Collateral/MMSD914T1-D.PDF; Description_: 100V 0.2A Switching Diode, SOD-123; Sim.Device: D; ki_keywords: diode
pins: 1 K, 2 A

## MMSD4148
designator *  value MMSD4148  Reference: D
100V 200mA Switching Diode, SOD-123; Sim.Pins: 1=K 2=A; ki_fp_filters: D*SOD?123*; Footprint: Diode_SMD:D_SOD-123; Datasheet: https://www.onsemi.com/pub/Collateral/MMSD4148T1-D.PDF; Description_: 100V 200mA Switching Diode, SOD-123; Sim.Device: D; ki_keywords: diode
pins: 1 K, 2 A

## MRA4003T3G
designator *  value MRA4003T3G  Reference: D
300V, 1A, General Purpose Rectifier Diode, SMA(DO-214AC); Sim.Pins: 1=K 2=A; ki_fp_filters: D*SMA*; Footprint: Diode_SMD:D_SMA; Datasheet: http://www.onsemi.com/pub_link/Collateral/MRA4003T3-D.PDF; Description_: 300V, 1A, General Purpose Rectifier Diode, SMA(DO-214AC); Sim.Device: D; ki_keywords: diode
pins: 1 K, 2 A

## MRA4004T3G
designator *  value MRA4004T3G  Reference: D
400V, 1A, General Purpose Rectifier Diode, SMA(DO-214AC); Sim.Pins: 1=K 2=A; ki_fp_filters: D*SMA*; Footprint: Diode_SMD:D_SMA; Datasheet: http://www.onsemi.com/pub_link/Collateral/MRA4003T3-D.PDF; Description_: 400V, 1A, General Purpose Rectifier Diode, SMA(DO-214AC); Sim.Device: D; ki_keywords: diode
pins: 1 K, 2 A

## MRA4005T3G
designator *  value MRA4005T3G  Reference: D
600V, 1A, General Purpose Rectifier Diode, SMA(DO-214AC); Sim.Pins: 1=K 2=A; ki_fp_filters: D*SMA*; Footprint: Diode_SMD:D_SMA; Datasheet: http://www.onsemi.com/pub_link/Collateral/MRA4003T3-D.PDF; Description_: 600V, 1A, General Purpose Rectifier Diode, SMA(DO-214AC); Sim.Device: D; ki_keywords: diode
pins: 1 K, 2 A

## MRA4006T3G
designator *  value MRA4006T3G  Reference: D
800V, 1A, General Purpose Rectifier Diode, SMA(DO-214AC); Sim.Pins: 1=K 2=A; ki_fp_filters: D*SMA*; Footprint: Diode_SMD:D_SMA; Datasheet: http://www.onsemi.com/pub_link/Collateral/MRA4003T3-D.PDF; Description_: 800V, 1A, General Purpose Rectifier Diode, SMA(DO-214AC); Sim.Device: D; ki_keywords: diode
pins: 1 K, 2 A

## MRA4007T3G
designator *  value MRA4007T3G  Reference: D
1000V, 1A, General Purpose Rectifier Diode, SMA(DO-214AC); Sim.Pins: 1=K 2=A; ki_fp_filters: D*SMA*; Footprint: Diode_SMD:D_SMA; Datasheet: http://www.onsemi.com/pub_link/Collateral/MRA4003T3-D.PDF; Description_: 1000V, 1A, General Purpose Rectifier Diode, SMA(DO-214AC); Sim.Device: D; ki_keywords: diode
pins: 1 K, 2 A

## NRVA4003T3G
designator *  value NRVA4003T3G  Reference: D
300V, 1A, General Purpose Rectifier Diode, SMA(DO-214AC); Sim.Pins: 1=K 2=A; ki_keywords: AEC-Q101; ki_fp_filters: D*SMA*; Footprint: Diode_SMD:D_SMA; Datasheet: http://www.onsemi.com/pub_link/Collateral/MRA4003T3-D.PDF; Description_: 300V, 1A, General Purpose Rectifier Diode, SMA(DO-214AC); Sim.Device: D
pins: 1 K, 2 A

## NRVA4004T3G
designator *  value NRVA4004T3G  Reference: D
400V, 1A, General Purpose Rectifier Diode, SMA(DO-214AC); Sim.Pins: 1=K 2=A; ki_keywords: AEC-Q101; ki_fp_filters: D*SMA*; Footprint: Diode_SMD:D_SMA; Datasheet: http://www.onsemi.com/pub_link/Collateral/MRA4003T3-D.PDF; Description_: 400V, 1A, General Purpose Rectifier Diode, SMA(DO-214AC); Sim.Device: D
pins: 1 K, 2 A

## NRVA4005T3G
designator *  value NRVA4005T3G  Reference: D
600V, 1A, General Purpose Rectifier Diode, SMA(DO-214AC); Sim.Pins: 1=K 2=A; ki_keywords: AEC-Q101; ki_fp_filters: D*SMA*; Footprint: Diode_SMD:D_SMA; Datasheet: http://www.onsemi.com/pub_link/Collateral/MRA4003T3-D.PDF; Description_: 600V, 1A, General Purpose Rectifier Diode, SMA(DO-214AC); Sim.Device: D
pins: 1 K, 2 A

## NRVA4006T3G
designator *  value NRVA4006T3G  Reference: D
800V, 1A, General Purpose Rectifier Diode, SMA(DO-214AC); Sim.Pins: 1=K 2=A; ki_keywords: AEC-Q101; ki_fp_filters: D*SMA*; Footprint: Diode_SMD:D_SMA; Datasheet: http://www.onsemi.com/pub_link/Collateral/MRA4003T3-D.PDF; Description_: 800V, 1A, General Purpose Rectifier Diode, SMA(DO-214AC); Sim.Device: D
pins: 1 K, 2 A

## NRVA4007T3G
designator *  value NRVA4007T3G  Reference: D
1000V, 1A, General Purpose Rectifier Diode, SMA(DO-214AC); Sim.Pins: 1=K 2=A; ki_keywords: AEC-Q101; ki_fp_filters: D*SMA*; Footprint: Diode_SMD:D_SMA; Datasheet: http://www.onsemi.com/pub_link/Collateral/MRA4003T3-D.PDF; Description_: 1000V, 1A, General Purpose Rectifier Diode, SMA(DO-214AC); Sim.Device: D
pins: 1 K, 2 A

## NSR0340HT1G
designator *  value NSR0340HT1G  Reference: D
40V 0.25A Schottky Diode, SOD-323; ki_keywords: diode Schottky; ki_fp_filters: D*SOD?323*; Footprint: Diode_SMD:D_SOD-323; Datasheet: https://www.onsemi.com/pub/Collateral/NSR0340H-D.PDF; Description_: 40V 0.25A Schottky Diode, SOD-323
pins: 1 K, 2 A

## Panasonic_MA5J002E
designator *  value Panasonic_MA5J002E  Reference: D
Quad Ultra high Speed Switching Diode Array Com K; ki_fp_filters: SOT?353*; Footprint: Package_TO_SOT_SMD:SOT-353_SC-70-5; Datasheet: http://www.semicon.panasonic.co.jp/ds4/MA5J002E_BED_discon.pdf; Description_: Quad Ultra high Speed Switching Diode Array Com K; ki_keywords: diode
part A pins: 1 A, 2 K
part B pins: 2 K, 3 A
part C pins: 2 K, 4 A
part D pins: 2 K, 5 A

## PESD3V3S1UL
designator *  value PESD3V3S1UL  Reference: D
Unidirectional ESD protection diode, 3.3V, SOD-882; ki_fp_filters: D*SOD?882; Footprint: Diode_SMD:D_SOD-882; Datasheet: https://assets.nexperia.com/documents/data-sheet/PESD3V3S1UL.pdf; Description_: Unidirectional ESD protection diode, 3.3V, SOD-882; ki_keywords: diode
pins: 1 K, 2 A

## PESD3V3U1UL
designator *  value PESD3V3U1UL  Reference: D
Ultra low capacitance unidirectional ESD protection diode, 3.3V, SOD-882; ki_fp_filters: D*SOD?882; Footprint: Diode_SMD:D_SOD-882; Datasheet: https://assets.nexperia.com/documents/data-sheet/PESD3V3U1UL.pdf; Description_: Ultra low capacitance unidirectional ESD protection diode, 3.3V, SOD-882; ki_keywords: diode
pins: 1 K, 2 A

## PESD5V0L1UL
designator *  value PESD5V0L1UL  Reference: D
Low capacitance unidirectional ESD protection diode, 5V, SOD-882; ki_fp_filters: D*SOD?882; Footprint: Diode_SMD:D_SOD-882; Datasheet: https://assets.nexperia.com/documents/data-sheet/PESD5V0L1UL.pdf; Description_: Low capacitance unidirectional ESD protection diode, 5V, SOD-882; ki_keywords: diode
pins: 1 K, 2 A

## PESD5V0L1ULD
designator *  value PESD5V0L1ULD  Reference: D
Low capacitance unidirectional ESD protection diode, 5V, SOD-882D; ki_fp_filters: D*SOD?882D*; Footprint: Diode_SMD:D_SOD-882D; Datasheet: "https://assets.nexperia.com/documents/data-sheet/PESD5V0L1ULD.pdf; Description_: Low capacitance unidirectional ESD protection diode, 5V, SOD-882D; ki_keywords: diode
pins: 1 K, 2 A

## PESD5V0S1UL
designator *  value PESD5V0S1UL  Reference: D
Unidirectional ESD protection diode, 5V, SOD-882; ki_fp_filters: D*SOD?882; Footprint: Diode_SMD:D_SOD-882; Datasheet: https://assets.nexperia.com/documents/data-sheet/PESD5V0S1UL.pdf; Description_: Unidirectional ESD protection diode, 5V, SOD-882; ki_keywords: diode
pins: 1 K, 2 A

## PMEG030V030EPD
designator *  value PMEG030V030EPD  Reference: D
30V, 3A low Vf MEGA Schottky barrier rectifier, SOT-1289; ki_keywords: forward voltage diode; ki_fp_filters: Nexperia*CFP15*SOT?1289*; Footprint: Package_TO_SOT_SMD:Nexperia_CFP15_SOT-1289; Datasheet: https://assets.nexperia.com/documents/data-sheet/PMEG030V030EPD.pdf; Description_: 30V, 3A low Vf MEGA Schottky barrier rectifier, SOT-1289
pins: 1 A, 2 A, 3 K

## PMEG030V050EPD
designator *  value PMEG030V050EPD  Reference: D
30V, 5A low Vf MEGA Schottky barrier rectifier, SOT-1289; ki_keywords: forward voltage diode; ki_fp_filters: Nexperia*CFP15*SOT?1289*; Footprint: Package_TO_SOT_SMD:Nexperia_CFP15_SOT-1289; Datasheet: https://assets.nexperia.com/documents/data-sheet/PMEG030V050EPD.pdf; Description_: 30V, 5A low Vf MEGA Schottky barrier rectifier, SOT-1289
pins: 1 A, 2 A, 3 K

## PMEG40T10ER
designator *  value PMEG40T10ER  Reference: D
40V, 1A low Vf Trench MEGA Schottky barrier rectifier, SOD-123W; ki_keywords: forward voltage diode; ki_fp_filters: Nexperia*CFP3*SOD?123W*; Footprint: Diode_SMD:Nexperia_CFP3_SOD-123W; Datasheet: https://assets.nexperia.com/documents/data-sheet/PMEG40T10ER.pdf; Description_: 40V, 1A low Vf Trench MEGA Schottky barrier rectifier, SOD-123W
pins: 1 K, 2 A

## PMEG40T20ER
designator *  value PMEG40T20ER  Reference: D
40V, 2A low Vf Trench MEGA Schottky barrier rectifier, SOD-123W; ki_keywords: forward voltage diode; ki_fp_filters: Nexperia*CFP3*SOD?123W*; Footprint: Diode_SMD:Nexperia_CFP3_SOD-123W; Datasheet: https://assets.nexperia.com/documents/data-sheet/PMEG40T20ER.pdf; Description_: 40V, 2A low Vf Trench MEGA Schottky barrier rectifier, SOD-123W
pins: 1 K, 2 A

## PMEG40T30ER
designator *  value PMEG40T30ER  Reference: D
40V, 3A low Vf Trench MEGA Schottky barrier rectifier, SOD-123W; ki_keywords: forward voltage diode; ki_fp_filters: Nexperia*CFP3*SOD?123W*; Footprint: Diode_SMD:Nexperia_CFP3_SOD-123W; Datasheet: https://assets.nexperia.com/documents/data-sheet/PMEG40T30ER.pdf; Description_: 40V, 3A low Vf Trench MEGA Schottky barrier rectifier, SOD-123W
pins: 1 K, 2 A

## PMEG040V030EPD
designator *  value PMEG040V030EPD  Reference: D
40V, 3A low Vf MEGA Schottky barrier rectifier, SOT-1289; ki_keywords: forward voltage diode; ki_fp_filters: Nexperia*CFP15*SOT?1289*; Footprint: Package_TO_SOT_SMD:Nexperia_CFP15_SOT-1289; Datasheet: https://assets.nexperia.com/documents/data-sheet/PMEG040V030EPD.pdf; Description_: 40V, 3A low Vf MEGA Schottky barrier rectifier, SOT-1289
pins: 1 A, 2 A, 3 K

## PMEG040V050EPD
designator *  value PMEG040V050EPD  Reference: D
40V, 5A low Vf MEGA Schottky barrier rectifier, SOT-1289; ki_keywords: forward voltage diode; ki_fp_filters: Nexperia*CFP15*SOT?1289*; Footprint: Package_TO_SOT_SMD:Nexperia_CFP15_SOT-1289; Datasheet: https://assets.nexperia.com/documents/data-sheet/PMEG040V050EPD.pdf; Description_: 40V, 5A low Vf MEGA Schottky barrier rectifier, SOT-1289
pins: 1 A, 2 A, 3 K

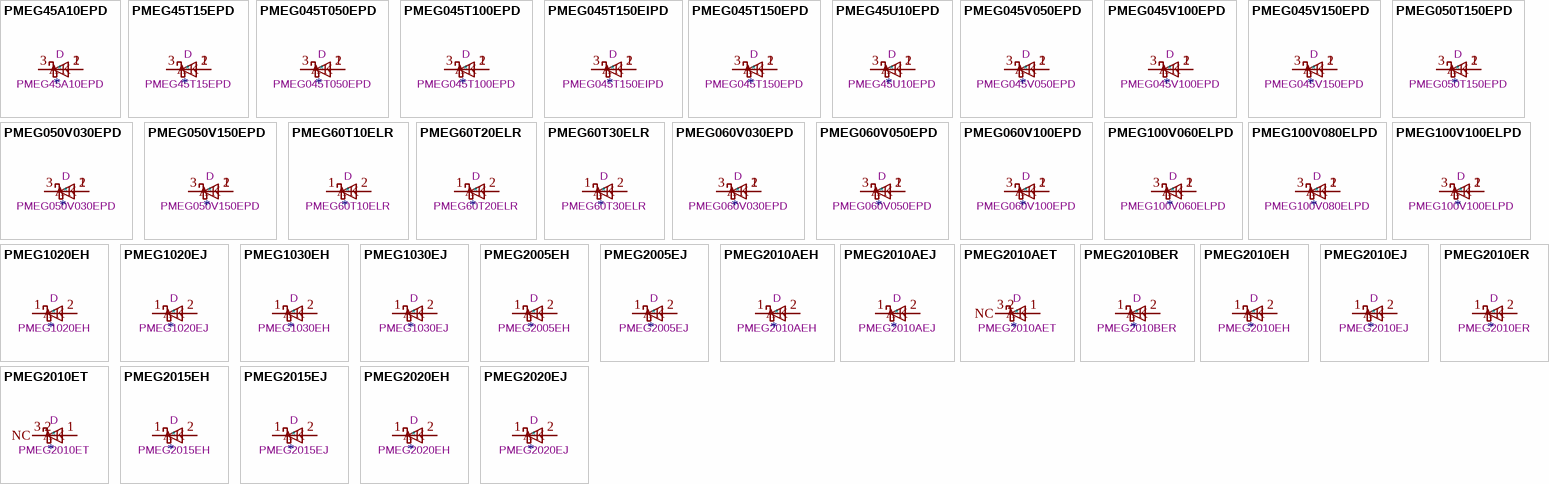
[diagram p11: symbols PMEG45A10EPD to PMEG2020EJ]

## PMEG45A10EPD
designator *  value PMEG45A10EPD  Reference: D
45V, 10A low Vf MEGA Schottky barrier rectifier, SOT-1289; ki_keywords: forward voltage diode; ki_fp_filters: Nexperia*CFP15*SOT?1289*; Footprint: Package_TO_SOT_SMD:Nexperia_CFP15_SOT-1289; Datasheet: https://assets.nexperia.com/documents/data-sheet/PMEG45A10EPD.pdf; Description_: 45V, 10A low Vf MEGA Schottky barrier rectifier, SOT-1289
pins: 1 A, 2 A, 3 K

## PMEG45T15EPD
designator *  value PMEG45T15EPD  Reference: D
45V, 15A low Vf Trench MEGA Schottky barrier rectifier, SOT-1289; ki_keywords: forward voltage diode; ki_fp_filters: Nexperia*CFP15*SOT?1289*; Footprint: Package_TO_SOT_SMD:Nexperia_CFP15_SOT-1289; Datasheet: https://assets.nexperia.com/documents/data-sheet/PMEG45T15EPD.pdf; Description_: 45V, 15A low Vf Trench MEGA Schottky barrier rectifier, SOT-1289
pins: 1 A, 2 A, 3 K

## PMEG045T050EPD
designator *  value PMEG045T050EPD  Reference: D
45V, 5A low Vf Trench MEGA Schottky barrier rectifier, SOT-1289; ki_keywords: forward voltage diode; ki_fp_filters: Nexperia*CFP15*SOT?1289*; Footprint: Package_TO_SOT_SMD:Nexperia_CFP15_SOT-1289; Datasheet: https://assets.nexperia.com/documents/data-sheet/PMEG045T050EPD.pdf; Description_: 45V, 5A low Vf Trench MEGA Schottky barrier rectifier, SOT-1289
pins: 1 A, 2 A, 3 K

## PMEG045T100EPD
designator *  value PMEG045T100EPD  Reference: D
45V, 10A low Vf Trench MEGA Schottky barrier rectifier, SOT-1289; ki_keywords: forward voltage diode; ki_fp_filters: Nexperia*CFP15*SOT?1289*; Footprint: Package_TO_SOT_SMD:Nexperia_CFP15_SOT-1289; Datasheet: https://assets.nexperia.com/documents/data-sheet/PMEG045T100EPD.pdf; Description_: 45V, 10A low Vf Trench MEGA Schottky barrier rectifier, SOT-1289
pins: 1 A, 2 A, 3 K

## PMEG045T150EIPD
designator *  value PMEG045T150EIPD  Reference: D
45V, 15A low Vf Trench MEGA Schottky barrier rectifier, SOT-1289; ki_keywords: forward voltage diode; ki_fp_filters: Nexperia*CFP15*SOT?1289*; Footprint: Package_TO_SOT_SMD:Nexperia_CFP15_SOT-1289; Datasheet: https://assets.nexperia.com/documents/data-sheet/PMEG045T150EIPD.pdf; Description_: 45V, 15A low Vf Trench MEGA Schottky barrier rectifier, SOT-1289
pins: 1 A, 2 A, 3 K

## PMEG045T150EPD
designator *  value PMEG045T150EPD  Reference: D
45V, 15A low Vf Trench MEGA Schottky barrier rectifier, SOT-1289; ki_keywords: forward voltage diode; ki_fp_filters: Nexperia*CFP15*SOT?1289*; Footprint: Package_TO_SOT_SMD:Nexperia_CFP15_SOT-1289; Datasheet: https://assets.nexperia.com/documents/data-sheet/PMEG045T150EPD.pdf; Description_: 45V, 15A low Vf Trench MEGA Schottky barrier rectifier, SOT-1289
pins: 1 A, 2 A, 3 K

## PMEG45U10EPD
designator *  value PMEG45U10EPD  Reference: D
45V, 10A extremely low Vf MEGA Schottky barrier rectifier, SOT-1289; ki_keywords: forward voltage diode; ki_fp_filters: Nexperia*CFP15*SOT?1289*; Footprint: Package_TO_SOT_SMD:Nexperia_CFP15_SOT-1289; Datasheet: https://assets.nexperia.com/documents/data-sheet/PMEG45U10EPD.pdf; Description_: 45V, 10A extremely low Vf MEGA Schottky barrier rectifier, SOT-1289
pins: 1 A, 2 A, 3 K

## PMEG045V050EPD
designator *  value PMEG045V050EPD  Reference: D
45V, 5A low Vf MEGA Schottky barrier rectifier, SOT-1289; ki_keywords: forward voltage diode; ki_fp_filters: Nexperia*CFP15*SOT?1289*; Footprint: Package_TO_SOT_SMD:Nexperia_CFP15_SOT-1289; Datasheet: https://assets.nexperia.com/documents/data-sheet/PMEG045V050EPD.pdf; Description_: 45V, 5A low Vf MEGA Schottky barrier rectifier, SOT-1289
pins: 1 A, 2 A, 3 K

## PMEG045V100EPD
designator *  value PMEG045V100EPD  Reference: D
45V, 10A low Vf MEGA Schottky barrier rectifier, SOT-1289; ki_keywords: forward voltage diode; ki_fp_filters: Nexperia*CFP15*SOT?1289*; Footprint: Package_TO_SOT_SMD:Nexperia_CFP15_SOT-1289; Datasheet: https://assets.nexperia.com/documents/data-sheet/PMEG045V100EPD.pdf; Description_: 45V, 10A low Vf MEGA Schottky barrier rectifier, SOT-1289
pins: 1 A, 2 A, 3 K

## PMEG045V150EPD
designator *  value PMEG045V150EPD  Reference: D
45V, 15A low Vf MEGA Schottky barrier rectifier, SOT-1289; ki_keywords: forward voltage diode; ki_fp_filters: Nexperia*CFP15*SOT?1289*; Footprint: Package_TO_SOT_SMD:Nexperia_CFP15_SOT-1289; Datasheet: https://assets.nexperia.com/documents/data-sheet/PMEG045V150EPD.pdf; Description_: 45V, 15A low Vf MEGA Schottky barrier rectifier, SOT-1289
pins: 1 A, 2 A, 3 K

## PMEG050T150EPD
designator *  value PMEG050T150EPD  Reference: D
50V, 15A low Vf Trench MEGA Schottky barrier rectifier, SOT-1289; ki_keywords: forward voltage diode; ki_fp_filters: Nexperia*CFP15*SOT?1289*; Footprint: Package_TO_SOT_SMD:Nexperia_CFP15_SOT-1289; Datasheet: https://assets.nexperia.com/documents/data-sheet/PMEG050T150EPD.pdf; Description_: 50V, 15A low Vf Trench MEGA Schottky barrier rectifier, SOT-1289
pins: 1 A, 2 A, 3 K

## PMEG050V030EPD
designator *  value PMEG050V030EPD  Reference: D
50V, 3A low Vf MEGA Schottky barrier rectifier, SOT-1289; ki_keywords: forward voltage diode; ki_fp_filters: Nexperia*CFP15*SOT?1289*; Footprint: Package_TO_SOT_SMD:Nexperia_CFP15_SOT-1289; Datasheet: https://assets.nexperia.com/documents/data-sheet/PMEG050V030EPD.pdf; Description_: 50V, 3A low Vf MEGA Schottky barrier rectifier, SOT-1289
pins: 1 A, 2 A, 3 K

## PMEG050V150EPD
designator *  value PMEG050V150EPD  Reference: D
50V, 15A low Vf MEGA Schottky barrier rectifier, SOT-1289; ki_keywords: forward voltage diode; ki_fp_filters: Nexperia*CFP15*SOT?1289*; Footprint: Package_TO_SOT_SMD:Nexperia_CFP15_SOT-1289; Datasheet: https://assets.nexperia.com/documents/data-sheet/PMEG050V150EPD.pdf; Description_: 50V, 15A low Vf MEGA Schottky barrier rectifier, SOT-1289
pins: 1 A, 2 A, 3 K

## PMEG60T10ELR
designator *  value PMEG60T10ELR  Reference: D
60V, 1A low leakage current Trench MEGA Schottky barrier rectifier, SOD-123W; ki_keywords: ir diode; ki_fp_filters: Nexperia*CFP3*SOD?123W*; Footprint: Diode_SMD:Nexperia_CFP3_SOD-123W; Datasheet: https://assets.nexperia.com/documents/data-sheet/PMEG60T10ELR.pdf; Description_: 60V, 1A low leakage current Trench MEGA Schottky barrier rectifier, SOD-123W
pins: 1 K, 2 A

## PMEG60T20ELR
designator *  value PMEG60T20ELR  Reference: D
60V, 2A low leakage current Trench MEGA Schottky barrier rectifier, SOD-123W; ki_keywords: ir diode; ki_fp_filters: Nexperia*CFP3*SOD?123W*; Footprint: Diode_SMD:Nexperia_CFP3_SOD-123W; Datasheet: https://assets.nexperia.com/documents/data-sheet/PMEG60T20ELR.pdf; Description_: 60V, 2A low leakage current Trench MEGA Schottky barrier rectifier, SOD-123W
pins: 1 K, 2 A

## PMEG60T30ELR
designator *  value PMEG60T30ELR  Reference: D
60V, 3A low leakage current Trench MEGA Schottky barrier rectifier, SOD-123W; ki_keywords: ir diode; ki_fp_filters: Nexperia*CFP3*SOD?123W*; Footprint: Diode_SMD:Nexperia_CFP3_SOD-123W; Datasheet: https://assets.nexperia.com/documents/data-sheet/PMEG60T30ELR.pdf; Description_: 60V, 3A low leakage current Trench MEGA Schottky barrier rectifier, SOD-123W
pins: 1 K, 2 A

## PMEG060V030EPD
designator *  value PMEG060V030EPD  Reference: D
60V, 3A low Vf MEGA Schottky barrier rectifier, SOT-1289; ki_keywords: forward voltage diode; ki_fp_filters: Nexperia*CFP15*SOT?1289*; Footprint: Package_TO_SOT_SMD:Nexperia_CFP15_SOT-1289; Datasheet: https://assets.nexperia.com/documents/data-sheet/PMEG060V030EPD.pdf; Description_: 60V, 3A low Vf MEGA Schottky barrier rectifier, SOT-1289
pins: 1 A, 2 A, 3 K

## PMEG060V050EPD
designator *  value PMEG060V050EPD  Reference: D
60V, 5A low Vf MEGA Schottky barrier rectifier, SOT-1289; ki_keywords: forward voltage diode; ki_fp_filters: Nexperia*CFP15*SOT?1289*; Footprint: Package_TO_SOT_SMD:Nexperia_CFP15_SOT-1289; Datasheet: https://assets.nexperia.com/documents/data-sheet/PMEG060V050EPD.pdf; Description_: 60V, 5A low Vf MEGA Schottky barrier rectifier, SOT-1289
pins: 1 A, 2 A, 3 K

## PMEG060V100EPD
designator *  value PMEG060V100EPD  Reference: D
60V, 10A low Vf MEGA Schottky barrier rectifier, SOT-1289; ki_keywords: forward voltage diode; ki_fp_filters: Nexperia*CFP15*SOT?1289*; Footprint: Package_TO_SOT_SMD:Nexperia_CFP15_SOT-1289; Datasheet: https://assets.nexperia.com/documents/data-sheet/PMEG060V100EPD.pdf; Description_: 60V, 10A low Vf MEGA Schottky barrier rectifier, SOT-1289
pins: 1 A, 2 A, 3 K

## PMEG100V060ELPD
designator *  value PMEG100V060ELPD  Reference: D
100V, 6A low leakage current MEGA Schottky barrier rectifier, SOT-1289; ki_keywords: ir diode; ki_fp_filters: Nexperia*CFP15*SOT?1289*; Footprint: Package_TO_SOT_SMD:Nexperia_CFP15_SOT-1289; Datasheet: https://assets.nexperia.com/documents/data-sheet/PMEG100V060ELPD.pdf; Description_: 100V, 6A low leakage current MEGA Schottky barrier rectifier, SOT-1289
pins: 1 A, 2 A, 3 K

## PMEG100V080ELPD
designator *  value PMEG100V080ELPD  Reference: D
100V, 8A low leakage current MEGA Schottky barrier rectifier, SOT-1289; ki_keywords: ir diode; ki_fp_filters: Nexperia*CFP15*SOT?1289*; Footprint: Package_TO_SOT_SMD:Nexperia_CFP15_SOT-1289; Datasheet: https://assets.nexperia.com/documents/data-sheet/PMEG100V080ELPD.pdf; Description_: 100V, 8A low leakage current MEGA Schottky barrier rectifier, SOT-1289
pins: 1 A, 2 A, 3 K